# Altium footprint library PCBLIB_Autobot.PcbLib: 14 footprints
Each footprint in its own frame and in the unit in brackets; x right, y up, seen from the top. Pads: shape width x height; smd on the part's side, far side on the other; paste and mask are expansions set on the pad; w line width, h text height; cw(c..) or ccw(c..) is an arc to the next point about the centre after c.
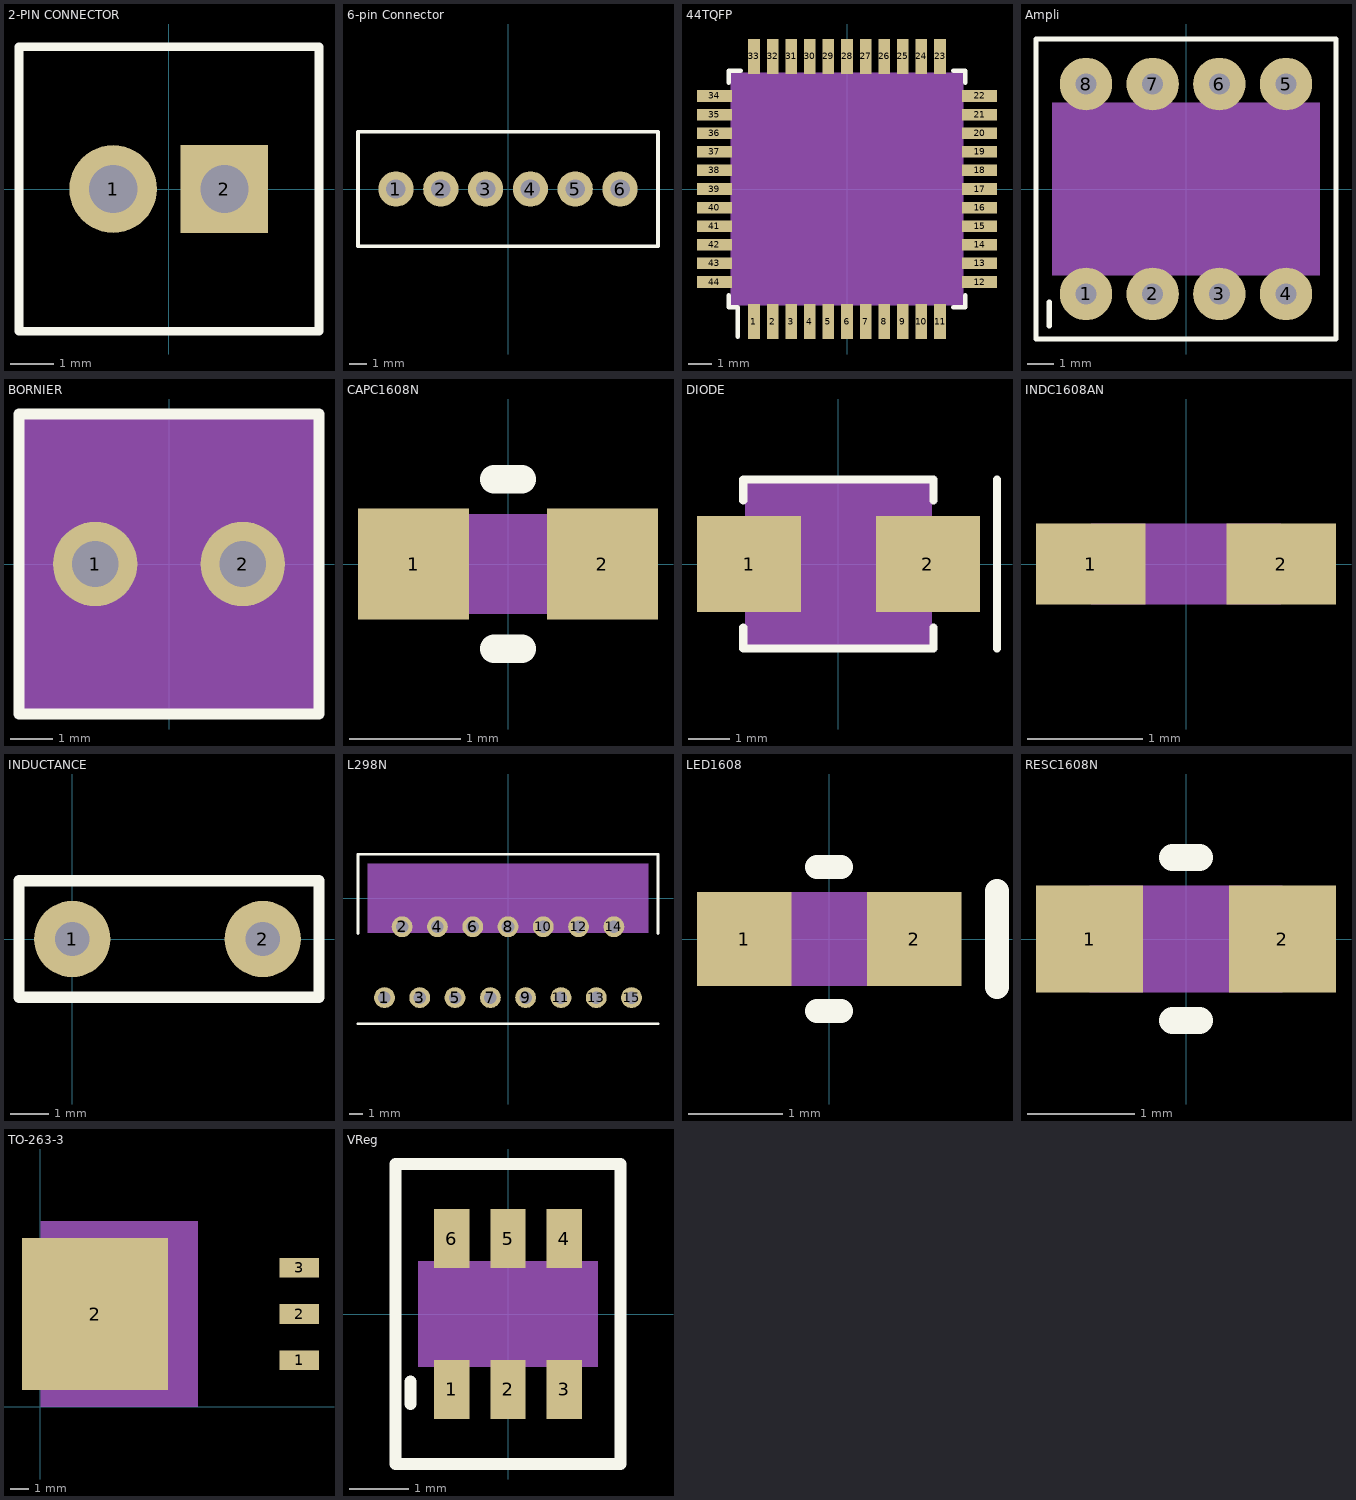
[diagram p0: the footprints below, top view; thin cyan lines are the x and y axes]

## 2-PIN CONNECTOR [mm] "2-PIN CONNECTOR"
pads (2):
  round 2 hole 1.1: 1(-1.27,0)
  rect 2x2 hole 1.1: 2(1.27,0)
Top Overlay:
  lines w0.2: -3.42,-3.25 3.429,-3.25 3.429,3.25 -3.42,3.25 -3.42,-3.25

## 6-pin Connector [mm] "6-pin Connector"
height 40
pads (6):
  round 2 hole 1.1: 1(-6.35,0) 2(-3.81,0) 3(-1.27,0) 4(1.27,0) 5(3.81,0) 6(6.35,0)
Top Overlay:
  lines w0.2: -8.5,-3.25 -8.5,3.25 8.5,3.25 8.5,-3.25 -8.5,-3.25

## 44TQFP [mm] "PIC"
height 1
pads (44):
  rect 0.5x1.5 smd: 1(-4,-5.7) 2(-3.2,-5.7) 3(-2.4,-5.7) 4(-1.6,-5.7) 5(-0.8,-5.7) 6(0,-5.7) 7(0.8,-5.7) 8(1.6,-5.7) 9(2.4,-5.7) 10(3.2,-5.7) 11(4,-5.7) 23(4,5.7) 24(3.2,5.7) 25(2.4,5.7) 26(1.6,5.7) 27(0.8,5.7) 28(0,5.7) 29(-0.8,5.7) 30(-1.6,5.7) 31(-2.4,5.7) 32(-3.2,5.7) 33(-4,5.7)
  rect 1.5x0.5 smd: 12(5.7,-4) 13(5.7,-3.2) 14(5.7,-2.4) 15(5.7,-1.6) 16(5.7,-0.8) 17(5.7,0) 18(5.7,0.8) 19(5.7,1.6) 20(5.7,2.4) 21(5.7,3.2) 22(5.7,4) 34(-5.7,4) 35(-5.7,3.2) 36(-5.7,2.4) 37(-5.7,1.6) 38(-5.7,0.8) 39(-5.7,0) 40(-5.7,-0.8) 41(-5.7,-1.6) 42(-5.7,-2.4) 43(-5.7,-3.2) 44(-5.7,-4)
Top Overlay:
  lines w0.2: -5.08,-4.572 -5.08,-5.08 -4.699,-5.08 -4.699,-6.35 ; -5.08,4.572 -5.08,5.08 -4.572,5.08 ; 4.572,-5.08 5.08,-5.08 5.08,-4.572 ; 4.572,5.08 5.08,5.08 5.08,4.572
Mechanical 1:
  rectangle: -5,-5 5,5

## Ampli [mm] "Ampli"
height 0.15
pads (8):
  round 2 hole 0.8: 1(-3.81,-4) 2(-1.27,-4) 3(1.27,-4) 4(3.81,-4) 5(3.81,4) 6(1.27,4) 7(-1.27,4) 8(-3.81,4)
Top Overlay:
  lines w0.2: -5.207,-5.207 -5.207,-4.318 ; -5.715,-5.715 -5.715,5.715 5.715,5.715 5.715,-5.715 -5.715,-5.715
Mechanical 1:
  rectangle: -5.1,-3.3 5.1,3.3
3D body: height 3.3, standoff 0, extent -5.1,-3.3 5.1,3.3

## BORNIER [mm] "BORNIER"
height 8.5
pads (2):
  round 2 hole 1.1: 1(-1.75,0) 2(1.75,0)
Top Overlay:
  lines w0.254: -3.556,-3.556 -3.556,3.556 3.556,3.556 3.556,-3.556 -3.556,-3.556
Mechanical 1:
  region: -3.5,3.5 -3.5,-3.5 3.5,-3.5 3.5,3.5

## CAPC1608N [mm]
height 0.9
pads (2):
  rect 1x1 smd: 1(-0.85,0) 2(0.85,0)
Top Overlay:
  lines w0.254: -0.127,-0.762 0.127,-0.762 ; -0.127,0.762 0.127,0.762
Mechanical 1:
  rectangle: -0.85,-0.45 0.85,0.45

## DIODE [mm]
height 0.5
pads (2):
  rect 2.5x2.3 smd: 1(-2.15,0) 2(2.15,0)
Top Overlay:
  lines w0.2: -2.286,-1.524 -2.286,-2.032 2.286,-2.032 2.286,-1.524 ; -2.286,1.524 -2.286,2.032 2.286,2.032 2.286,1.524 ; 3.81,-2.032 3.81,2.032
Mechanical 1:
  rectangle: -2.25,-2 2.25,2

## INDC1608AN [mm]
pads (2):
  rect 0.95x0.7 smd mask+0.102: 1(-0.825,0)
  rect 0.95x0.7 smd: 2(0.825,0)
Mechanical 1:
  rectangle: -0.825,-0.35 0.825,0.35

## INDUCTANCE [mm] "INDUCTANCE"
height 21
pads (2):
  round 2 hole 0.9: 1(0,0) 2(5,0)
Top Overlay:
  lines w0.3: -1.397,-1.524 -1.397,1.524 6.477,1.524 6.477,-1.524 -1.397,-1.524

## L298N [mm] "Motor Controller - Multiwatt15 V"
height 18
pads (15):
  round 1.5 hole 0.9: 1(-8.89,-7.15) 2(-7.62,-2.05) 3(-6.35,-7.15) 4(-5.08,-2.05) 5(-3.81,-7.15) 6(-2.54,-2.05) 7(-1.27,-7.15) 8(0,-2.05) 9(1.27,-7.15) 10(2.54,-2.05) 11(3.81,-7.15) 12(5.08,-2.05) 13(6.35,-7.15) 14(7.62,-2.05) 15(8.89,-7.15)
Top Overlay:
  lines w0.2: -10.795,-9.035 10.795,-9.035 ; -10.795,-2.54 -10.795,3.175 10.795,3.175 10.795,-2.54
Mechanical 1:
  rectangle: -10.1,-2.5 10.1,2.5

## LED1608 [mm]
height 0.5
pads (2):
  rect 1x1 smd: 1(-0.9,0) 2(0.9,0)
Top Overlay:
  lines w0.254: -0.127,-0.762 0.127,-0.762 ; -0.127,0.762 0.127,0.762 ; 1.778,-0.508 1.778,0.508
Mechanical 1:
  rectangle: -0.9,-0.5 0.9,0.5

## RESC1608N [mm]
height 0.5
pads (2):
  rect 1x1 smd: 1(-0.9,0) 2(0.9,0)
Top Overlay:
  lines w0.254: -0.127,-0.762 0.127,-0.762 ; -0.127,0.762 0.127,0.762
Mechanical 1:
  rectangle: -0.9,-0.5 0.9,0.5

## TO-263-3 [mm] "TO-263-3"
pads (4):
  rect 2.16x1.07 smd: 1(14.17,2.54) 2(14.17,5.08) 3(14.17,7.62)
  rect 8x8.33 smd: 2(3,5.08)
Mechanical 1:
  rectangle: 0,0 8.64,10.16

## VReg [mm] "V Regulator"
height 1.1
pads (6):
  rect 0.6x1 smd: 1(-0.95,-1.275) 2(0,-1.275) 3(0.95,-1.275) 4(0.95,1.275) 5(0,1.275) 6(-0.95,1.275)
Top Overlay:
  lines w0.2: -1.651,-1.524 -1.651,-1.143 ; -1.905,-2.54 -1.905,2.54 1.905,2.54 1.905,-2.54 -1.905,-2.54
Mechanical 1:
  rectangle: -1.525,-0.9 1.525,0.9